# Altium schematic symbol library 686 1xx 141 22.SchLib: 16 symbols
Pins are listed as number, name and electrical type; pins without a type are passive.

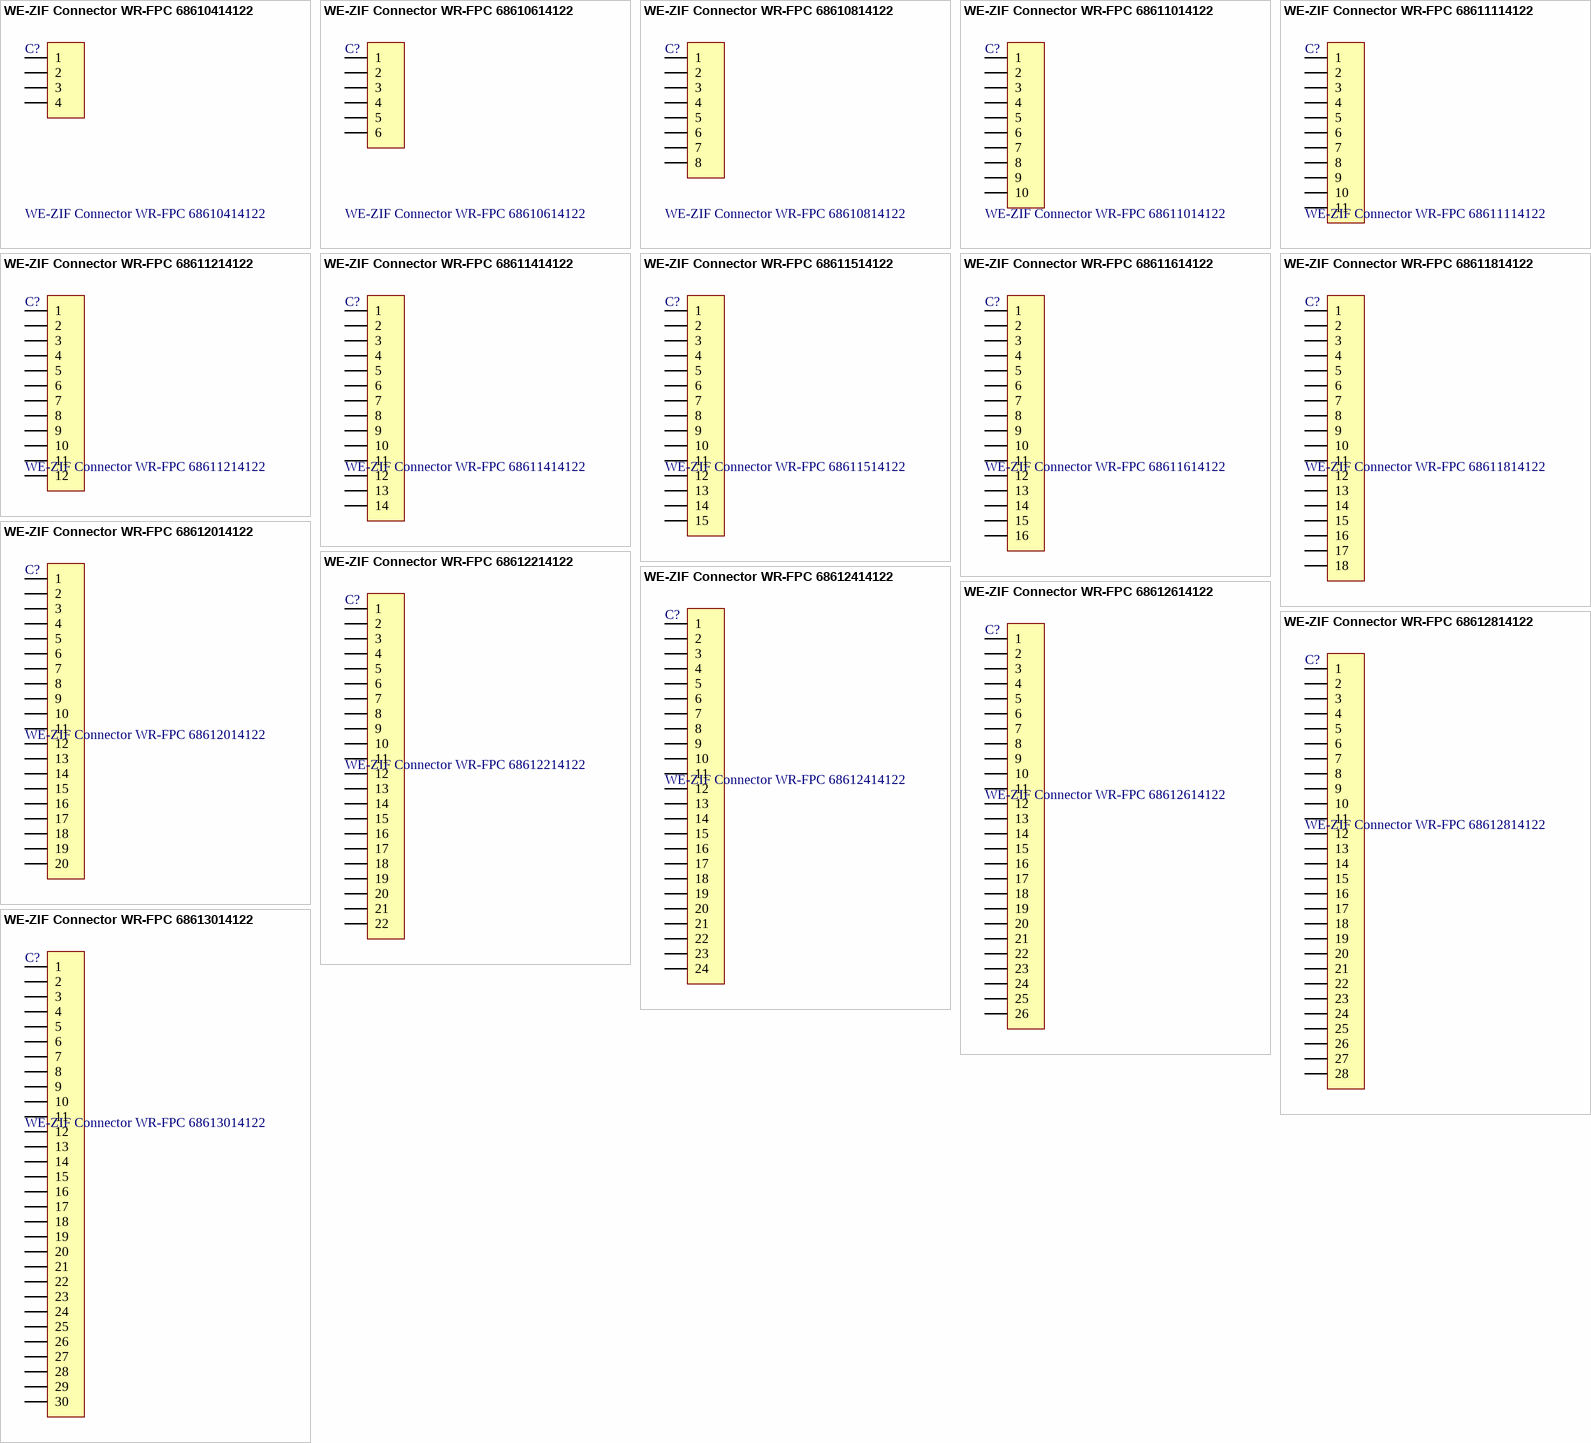
[diagram p0: symbols WE-ZIF Connector WR-FPC 68610414122 to WE-ZIF Connector WR-FPC 68613014122]

## WE-ZIF Connector WR-FPC 68610414122
designator C?
WR-FPC 1.00mm SMT ZIF Horizontal Top Contact; Manufacturer: Würth Elektronik eiSos GmbH; ComponentLink1 Description: Manufacturer; ComponentLink2 Description: Datasheet; NoPins: 04; Created Date: 10 October 2013; partNo: 68610414122; ComponentLink1URL: http://www.we-online.com; ComponentLink2URL: http://katalog.we-online.de/em/datasheet/6861xx14122.pdf; Created by: Karrer Zheng
footprint 68610414122 (4 pins)
pins: 1, 2, 3, 4

## WE-ZIF Connector WR-FPC 68610614122
designator C?
WR-FPC 1.00mm SMT ZIF Horizontal Top Contact; Manufacturer: Würth Elektronik eiSos GmbH; ComponentLink1 Description: Manufacturer; ComponentLink2 Description: Datasheet; NoPins: 06; Created Date: 10 October 2013; partNo: 68610614122; ComponentLink1URL: http://www.we-online.com; ComponentLink2URL: http://katalog.we-online.de/em/datasheet/6861xx14122.pdf; Created by: Karrer Zheng
footprint 68610614122 (6 pins)
pins: 1, 2, 3, 4, 5, 6

## WE-ZIF Connector WR-FPC 68610814122
designator C?
WR-FPC 1.00mm SMT ZIF Horizontal Top Contact; Manufacturer: Würth Elektronik eiSos GmbH; ComponentLink1 Description: Manufacturer; ComponentLink2 Description: Datasheet; NoPins: 08; Created Date: 10 October 2013; partNo: 68610814122; ComponentLink1URL: http://www.we-online.com; ComponentLink2URL: http://katalog.we-online.de/em/datasheet/6861xx14122.pdf; Created by: Karrer Zheng
footprint 68610814122 (8 pins)
pins: 1, 2, 3, 4, 5, 6, 7, 8

## WE-ZIF Connector WR-FPC 68611014122
designator C?
WR-FPC 1.00mm SMT ZIF Horizontal Top Contact; Manufacturer: Würth Elektronik eiSos GmbH; ComponentLink1 Description: Manufacturer; ComponentLink2 Description: Datasheet; NoPins: 10; Created Date: 10 October 2013; partNo: 68611014122; ComponentLink1URL: http://www.we-online.com; ComponentLink2URL: http://katalog.we-online.de/em/datasheet/6861xx14122.pdf; Created by: Karrer Zheng
footprint 68611014122 (10 pins)
pins: 1, 2, 3, 4, 5, 6, 7, 8, 9, 10

## WE-ZIF Connector WR-FPC 68611114122
designator C?
WR-FPC 1.00mm SMT ZIF Horizontal Top Contact; Manufacturer: Würth Elektronik eiSos GmbH; ComponentLink1 Description: Manufacturer; ComponentLink2 Description: Datasheet; NoPins: 11; Created Date: 10 October 2013; partNo: 68611114122; ComponentLink1URL: http://www.we-online.com; ComponentLink2URL: http://katalog.we-online.de/em/datasheet/6861xx14122.pdf; Created by: Karrer Zheng
footprint 68611114122 (11 pins)
pins: 1, 2, 3, 4, 5, 6, 7, 8, 9, 10, 11

## WE-ZIF Connector WR-FPC 68611214122
designator C?
WR-FPC 1.00mm SMT ZIF Horizontal Top Contact; Manufacturer: Würth Elektronik eiSos GmbH; ComponentLink1 Description: Manufacturer; ComponentLink2 Description: Datasheet; NoPins: 12; Created Date: 10 October 2013; partNo: 68611214122; ComponentLink1URL: http://www.we-online.com; ComponentLink2URL: http://katalog.we-online.de/em/datasheet/6861xx14122.pdf; Created by: Karrer Zheng
footprint 68611214122 (12 pins)
pins: 1, 2, 3, 4, 5, 6, 7, 8, 9, 10, 11, 12

## WE-ZIF Connector WR-FPC 68611414122
designator C?
WR-FPC 1.00mm SMT ZIF Horizontal Top Contact; Manufacturer: Würth Elektronik eiSos GmbH; ComponentLink1 Description: Manufacturer; ComponentLink2 Description: Datasheet; NoPins: 14; Created Date: 10 October 2013; partNo: 68611414122; ComponentLink1URL: http://www.we-online.com; ComponentLink2URL: http://katalog.we-online.de/em/datasheet/6861xx14122.pdf; Created by: Karrer Zheng
footprint 68611414122 (14 pins)
pins: 1, 2, 3, 4, 5, 6, 7, 8, 9, 10, 11, 12, 13, 14

## WE-ZIF Connector WR-FPC 68611514122
designator C?
WR-FPC 1.00mm SMT ZIF Horizontal Top Contact; Manufacturer: Würth Elektronik eiSos GmbH; ComponentLink1 Description: Manufacturer; ComponentLink2 Description: Datasheet; NoPins: 15; Created Date: 10 October 2013; partNo: 68611514122; ComponentLink1URL: http://www.we-online.com; ComponentLink2URL: http://katalog.we-online.de/em/datasheet/6861xx14122.pdf; Created by: Karrer Zheng
footprint 68611514122 (15 pins)
pins: 1, 2, 3, 4, 5, 6, 7, 8, 9, 10, 11, 12, 13, 14, 15

## WE-ZIF Connector WR-FPC 68611614122
designator C?
WR-FPC 1.00mm SMT ZIF Horizontal Top Contact; Manufacturer: Würth Elektronik eiSos GmbH; ComponentLink1 Description: Manufacturer; ComponentLink2 Description: Datasheet; NoPins: 16; Created Date: 10 October 2013; partNo: 68611614122; ComponentLink1URL: http://www.we-online.com; ComponentLink2URL: http://katalog.we-online.de/em/datasheet/6861xx14122.pdf; Created by: Karrer Zheng
footprint 68611614122 (16 pins)
pins: 1, 2, 3, 4, 5, 6, 7, 8, 9, 10, 11, 12, 13, 14, 15, 16

## WE-ZIF Connector WR-FPC 68611814122
designator C?
WR-FPC 1.00mm SMT ZIF Horizontal Top Contact; Manufacturer: Würth Elektronik eiSos GmbH; ComponentLink1 Description: Manufacturer; ComponentLink2 Description: Datasheet; NoPins: 18; Created Date: 10 October 2013; partNo: 68611814122; ComponentLink1URL: http://www.we-online.com; ComponentLink2URL: http://katalog.we-online.de/em/datasheet/6861xx14122.pdf; Created by: Karrer Zheng
footprint 68611814122 (18 pins)
pins: 1, 2, 3, 4, 5, 6, 7, 8, 9, 10, 11, 12, 13, 14, 15, 16, 17, 18

## WE-ZIF Connector WR-FPC 68612014122
designator C?
WR-FPC 1.00mm SMT ZIF Horizontal Top Contact; Manufacturer: Würth Elektronik eiSos GmbH; ComponentLink1 Description: Manufacturer; ComponentLink2 Description: Datasheet; NoPins: 20; Created Date: 10 October 2013; partNo: 68612014122; ComponentLink1URL: http://www.we-online.com; ComponentLink2URL: http://katalog.we-online.de/em/datasheet/6861xx14122.pdf; Created by: Karrer Zheng
footprint 68612014122 (20 pins)
pins: 1, 2, 3, 4, 5, 6, 7, 8, 9, 10, 11, 12, 13, 14, 15, 16, 17, 18, 19, 20

## WE-ZIF Connector WR-FPC 68612214122
designator C?
WR-FPC 1.00mm SMT ZIF Horizontal Top Contact; Manufacturer: Würth Elektronik eiSos GmbH; ComponentLink1 Description: Manufacturer; ComponentLink2 Description: Datasheet; NoPins: 22; Created Date: 10 October 2013; partNo: 68612214122; ComponentLink1URL: http://www.we-online.com; ComponentLink2URL: http://katalog.we-online.de/em/datasheet/6861xx14122.pdf; Created by: Karrer Zheng
footprint 68612214122 (22 pins)
pins: 1, 2, 3, 4, 5, 6, 7, 8, 9, 10, 11, 12, 13, 14, 15, 16, 17, 18, 19, 20, 21, 22

## WE-ZIF Connector WR-FPC 68612414122
designator C?
WR-FPC 1.00mm SMT ZIF Horizontal Top Contact; Manufacturer: Würth Elektronik eiSos GmbH; ComponentLink1 Description: Manufacturer; ComponentLink2 Description: Datasheet; NoPins: 24; Created Date: 10 October 2013; partNo: 68612414122; ComponentLink1URL: http://www.we-online.com; ComponentLink2URL: http://katalog.we-online.de/em/datasheet/6861xx14122.pdf; Created by: Karrer Zheng
footprint 68612414122 (24 pins)
pins: 1, 2, 3, 4, 5, 6, 7, 8, 9, 10, 11, 12, 13, 14, 15, 16, 17, 18, 19, 20, 21, 22, 23, 24

## WE-ZIF Connector WR-FPC 68612614122
designator C?
WR-FPC 1.00mm SMT ZIF Horizontal Top Contact; Manufacturer: Würth Elektronik eiSos GmbH; ComponentLink1 Description: Manufacturer; ComponentLink2 Description: Datasheet; NoPins: 26; Created Date: 10 October 2013; partNo: 68612614122; ComponentLink1URL: http://www.we-online.com; ComponentLink2URL: http://katalog.we-online.de/em/datasheet/6861xx14122.pdf; Created by: Karrer Zheng
footprint 68612614122 (26 pins)
pins: 1, 2, 3, 4, 5, 6, 7, 8, 9, 10, 11, 12, 13, 14, 15, 16, 17, 18, 19, 20, 21, 22, 23, 24, 25, 26

## WE-ZIF Connector WR-FPC 68612814122
designator C?
WR-FPC 1.00mm SMT ZIF Horizontal Top Contact; Manufacturer: Würth Elektronik eiSos GmbH; ComponentLink1 Description: Manufacturer; ComponentLink2 Description: Datasheet; NoPins: 28; Created Date: 10 October 2013; partNo: 68612814122; ComponentLink1URL: http://www.we-online.com; ComponentLink2URL: http://katalog.we-online.de/em/datasheet/6861xx14122.pdf; Created by: Karrer Zheng
footprint 68612814122 (28 pins)
pins: 1, 2, 3, 4, 5, 6, 7, 8, 9, 10, 11, 12, 13, 14, 15, 16, 17, 18, 19, 20, 21, 22, 23, 24, 25, 26, 27, 28

## WE-ZIF Connector WR-FPC 68613014122
designator C?
WR-FPC 1.00mm SMT ZIF Horizontal Top Contact; Manufacturer: Würth Elektronik eiSos GmbH; ComponentLink1 Description: Manufacturer; ComponentLink2 Description: Datasheet; NoPins: 30; Created Date: 10 October 2013; partNo: 68613014122; ComponentLink1URL: http://www.we-online.com; ComponentLink2URL: http://katalog.we-online.de/em/datasheet/6861xx14122.pdf; Created by: Karrer Zheng
footprint 68613014122 (30 pins)
pins: 1, 2, 3, 4, 5, 6, 7, 8, 9, 10, 11, 12, 13, 14, 15, 16, 17, 18, 19, 20, 21, 22, 23, 24, 25, 26, 27, 28, 29, 30